# Altium footprint library Relays.PcbLib: 1 footprints
Each footprint in its own frame and in the unit in brackets; x right, y up, seen from the top. Pads: shape width x height; smd on the part's side, far side on the other; paste and mask are expansions set on the pad; w line width, h text height; cw(c..) or ccw(c..) is an arc to the next point about the centre after c.
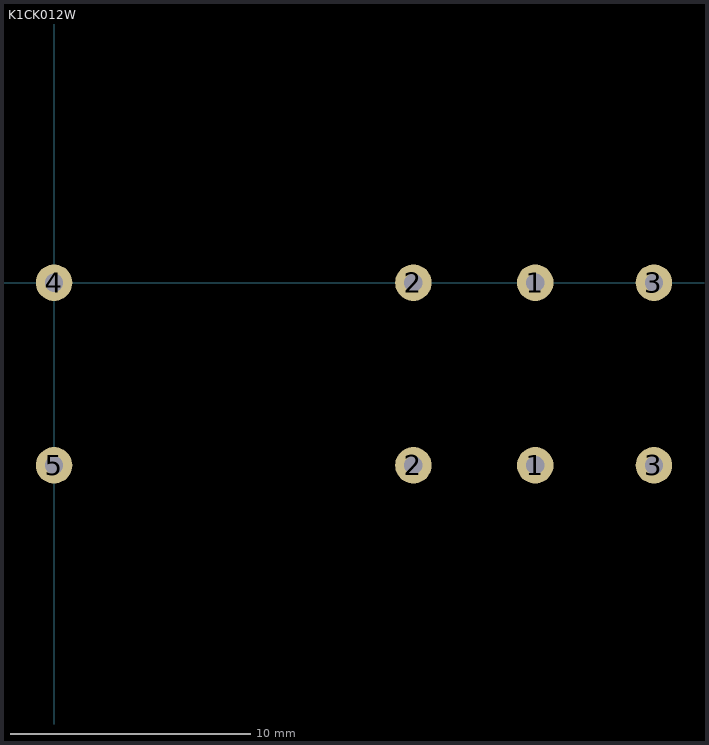
[diagram p0: the footprint, top view; thin cyan lines are the x and y axes]

## K1CK012W [mil] "12V, 16A 250VAC"
pads (8):
  round 60 hole 30: 1(790,-300) 1(790,0) 2(590,-300) 2(590,0) 3(985,-300) 3(985,0) 4(0,0) 5(0,-300)
3D body "Relay k1ck012w.STEP": height 630.42, standoff -129.42, extent -100,-406.81 1053.54,105